# EAGLE library part ADAFRUIT-ADS1115 (library SDSURocket-BreakoutBoards)
Adafruit ADS1115 Breakout 16-Bit 4 Channel ADC with Programmable Gain Amplifier Layout for the Adafruit ADS1115 Breakout board. Adafruit Product ID: 1085 <http://www.adafruit.com/product/1085>
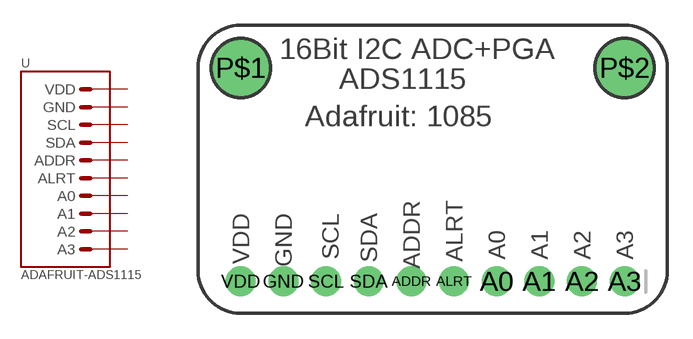
[diagram p4: symbol with the pads of ADAFRUIT-ADS1115; footprint ADAFRUIT-ADS1115]

Designator prefix -

## ADAFRUIT-ADS1115-BREAKOUT  [ADAFRUIT-ADS1115]
A0  A0  in
A1  A1  in
A2  A2  in
A3  A3  in
ADDR  ADDR
ALRT  ALRT  out
GND  GND  pwr
SCL  SCL  in
SDA  SDA
VDD  VDD  pwr

## Footprint ADAFRUIT-ADS1115 (pad centres in mm)
Adafruit ADS1115 Breakout 16-Bit 4 Channel ADC with Programmable Gain Amplifier Layout for the Adafruit ADS1115 Breakout board. Adafruit Product ID: 1085 <http://www.adafruit.com/product/1085>
drill 1 pad 1.778: A0 3.81,-6.668; A1 6.35,-6.668; A2 8.89,-6.668; A3 11.43,-6.668; ADDR -1.27,-6.668; ALRT 1.27,-6.668; GND -8.89,-6.668; SCL -6.35,-6.668; SDA -3.81,-6.668; VDD -11.43,-6.668
drill 2.5 pad 3.2: P$1 -11.43,6.032; P$2 11.43,6.032